# EAGLE library part PINHD-2X8 (library _mtvl.connectors)
PIN HEADER
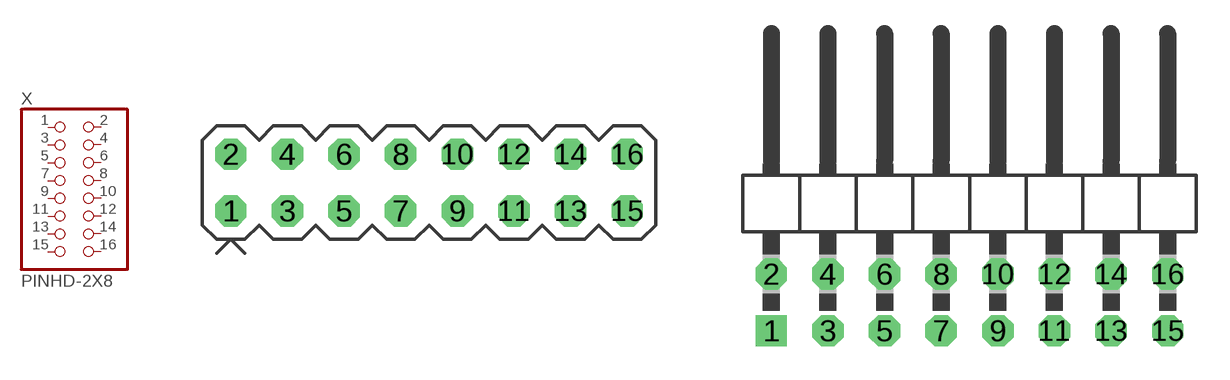
[diagram p4: symbol with the pads of 2X08; footprints 2X08, 2X08/90]

Designator prefix X

## PINHD-2X8  [2X08]
1  1  pas
2  2  pas
3  3  pas
4  4  pas
5  5  pas
6  6  pas
7  7  pas
8  8  pas
9  9  pas
10  10  pas
11  11  pas
12  12  pas
13  13  pas
14  14  pas
15  15  pas
16  16  pas

## PINHD-2X8/90  [2X08/90]
Pads as for 2X08

## PINHD-2X8SMD  [IDC-2X08_SMD]
Pads as for 2X08

## PINHD-2X8BHS-16  [BHS-16]
Pads as for 2X08

## PINHD-2X8F  [PDB-16]
Pads as for 2X08

## PINHD-2X8SIDE  [2X08_SIDE]
Pads as for 2X08

## Footprint 2X08 (pad centres in mm)
PIN HEADER
drill 0.9 octagon: 1 -8.89,-1.27; 2 -8.89,1.27; 3 -6.35,-1.27; 4 -6.35,1.27; 5 -3.81,-1.27; 6 -3.81,1.27; 7 -1.27,-1.27; 8 -1.27,1.27; 9 1.27,-1.27; 10 1.27,1.27; 11 3.81,-1.27; 12 3.81,1.27; 13 6.35,-1.27; 14 6.35,1.27; 15 8.89,-1.27; 16 8.89,1.27

## Footprint 2X08/90 (pad centres in mm)
PIN HEADER
drill 0.9 square: 1 -8.89,-6.35
drill 0.9 octagon: 2 -8.89,-3.81; 3 -6.35,-6.35; 4 -6.35,-3.81; 5 -3.81,-6.35; 6 -3.81,-3.81; 7 -1.27,-6.35; 8 -1.27,-3.81; 9 1.27,-6.35; 10 1.27,-3.81; 11 3.81,-6.35; 12 3.81,-3.81; 13 6.35,-6.35; 14 6.35,-3.81; 15 8.89,-6.35; 16 8.89,-3.81

## Footprint IDC-2X08_SMD (pad centres in mm)
WR-PHD 2.54mm Dual SMT Socket Header, 16 Pins
smd 1.8 x 1: 1 2.6,-8.89; 2 -2.6,-8.89; 3 2.6,-6.35; 4 -2.6,-6.35; 5 2.6,-3.81; 6 -2.6,-3.81; 7 2.6,-1.27; 8 -2.6,-1.27; 9 2.6,1.27; 10 -2.6,1.27; 11 2.6,3.81; 12 -2.6,3.81; 13 2.6,6.35; 14 -2.6,6.35; 15 2.6,8.89; 16 -2.6,8.89

## Footprint BHS-16 (pad centres in mm)
smd 4.25 x 1: 1 3.125,-8.89; 2 -3.125,-8.89; 3 3.125,-6.35; 4 -3.125,-6.35; 5 3.125,-3.81; 6 -3.125,-3.81; 7 3.125,-1.27; 8 -3.125,-1.27; 9 3.125,1.27; 10 -3.125,1.27; 11 3.125,3.81; 12 -3.125,3.81; 13 3.125,6.35; 14 -3.125,6.35; 15 3.125,8.89; 16 -3.125,8.89

## Footprint PDB-16 (pad centres in mm)
PBD-16 (DS1023-2x8) Ningbo connfly electronic (Zhenqin) https://static.chipdip.ru/lib/226/DOC000226931.pdf
drill 0.8 octagon: 1 -8.89,-1.27; 2 -8.89,1.27; 3 -6.35,-1.27; 4 -6.35,1.27; 5 -3.81,-1.27; 6 -3.81,1.27; 7 -1.27,-1.27; 8 -1.27,1.27; 9 1.27,-1.27; 10 1.27,1.27; 11 3.81,-1.27; 12 3.81,1.27; 13 6.35,-1.27; 14 6.35,1.27; 15 8.89,-1.27; 16 8.89,1.27

## Footprint 2X08_SIDE (pad centres in mm)
2x08 PCB SIDE CONNECTOR
smd 1.524 x 2.794: 1 -8.89,-0.635; 3 -6.35,-0.635; 5 -3.81,-0.635; 7 -1.27,-0.635; 9 1.27,-0.635; 11 3.81,-0.635; 13 6.35,-0.635; 15 8.89,-0.635
smd 1.524 x 2.794 bottom: 2 -8.89,-0.635; 4 -6.35,-0.635; 6 -3.81,-0.635; 8 -1.27,-0.635; 10 1.27,-0.635; 12 3.81,-0.635; 14 6.35,-0.635; 16 8.89,-0.635